# Altium footprint library LiPoBattery.PcbLib: 3 footprints
Each footprint in its own frame and in the unit in brackets; x right, y up, seen from the top. Pads: shape width x height; smd on the part's side, far side on the other; paste and mask are expansions set on the pad; w line width, h text height; cw(c..) or ccw(c..) is an arc to the next point about the centre after c.
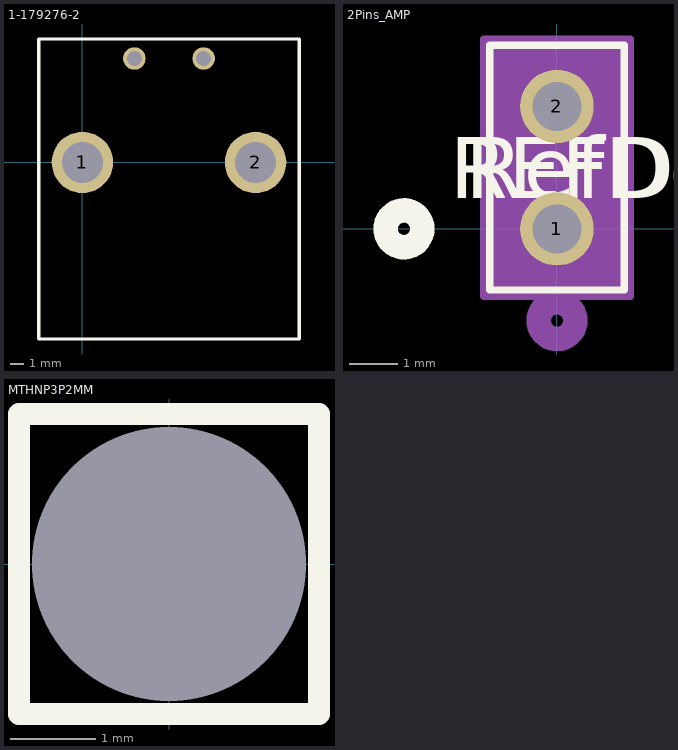
[diagram p0: the footprints below, top view; thin cyan lines are the x and y axes]

## 1-179276-2 [mm] "2_POS_HDR_X19MMY22MM"
height 9.347
pads (4):
  round 4.5 hole 3 unplated mask+0.1: 1(0,0)
  round 4.5 hole 3 mask+0.1: 2(12.7,0)
  round 1.65 hole 1.1 mask+0.1: ""(3.81,7.62) ""(8.89,7.62)
Top Overlay:
  lines w0.254: -3.2,-12.95 15.9,-12.95 15.9,9.05 -3.2,9.05 -3.2,-1.85 -3.2,-12.95
  text ".Designator" at -1.096,9.637 h1.52
3D body "c-0179276-12-b-3d.stp": height 10.86, standoff -3.79, extent -3.19,-13.725 15.89,8.375

## 2Pins_AMP [mil]
pads (2):
  round 60 hole 40 paste-99999 mask+0: 1(0,0) 2(0,100)
Top Overlay:
  circle w20: c-125,0 r15
  lines w6: -55,-50 -55,150 55,150 55,-50 -55,-50
  text "REFDES" at -87.5,25 h50
  text "RefDes" at -75,25 h50
Bottom Overlay:
  circle w20: c-125,0 r15
Mechanical 13:
  circle w20: c0,-75 r15
  lines w1: -50,-45 -50,145 50,145 50,-45 -50,-45
  text "RefDes2" at -87.5,25 h50
Mechanical 15:
  region: 60,155 -60,155 -60,-55 60,-55
  lines w6: -60,-55 60,-55 60,155 -60,155 -60,-55

## MTHNP3P2MM [mm] "Mounting Hole Non-Plated 3.2mm drill hole"
pads (1):
  round 1 hole 3.2 mask+0.1: ""(0,0)
Top Overlay:
  lines w0.254: -1.75,-1.75 -1.75,0 -1.75,1.75 1.75,1.75 1.75,0.875 1.75,-0.875 1.75,-1.75 -1.75,-1.75